# Altium schematic symbol library AT45DB081D-SSU-2.5.Schlib: 1 symbol
Pins are listed as number, name and electrical type; pins without a type are passive.

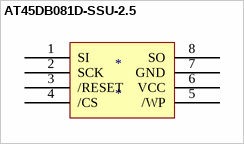
[diagram p0: symbol AT45DB081D-SSU-2.5]

## AT45DB081D-SSU-2.5
designator *
pins: 1 SI, 2 SCK, 3 /RESET, 4 /CS, 5 /WP, 6 VCC, 7 GND, 8 SO